# Altium integrated library Inductors.IntLib: 1 symbol
Pins are listed as number, name and electrical type; pins without a type are passive.

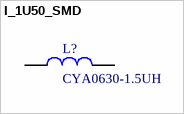
[diagram p0: symbol I_1U50_SMD]

## I_1U50_SMD
designator L?, comment CYA0630-1.5UH
1.5uH 10.6mΩ 14A 9A ±20% SMD,7.2x6.6mm Inductors (SMD) ROHS
footprint CYA0630-1.5UH (1.5uH 10.6mΩ 14A 9A ±20% SMD,7.2x6.6mm Inductors (SMD) ROHS)
pins: 1, 2